# Altium schematic symbol library TERMINAL_CONNECOR_3.SchLib: 1 symbol
Pins are listed as number, name and electrical type; pins without a type are passive.

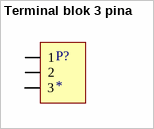
[diagram p0: symbol Terminal blok 3 pina]

## Terminal blok 3 pina
designator P?
Terminal blok
footprint TERMINAL BLOK (Terminal konektor 3 pina)
pins: 1, 2, 3